# Altium schematic symbol library eBug2014-Parallella-Carrier-H.SchLib: 4 symbols
Pins are listed as number, name and electrical type; pins without a type are passive.

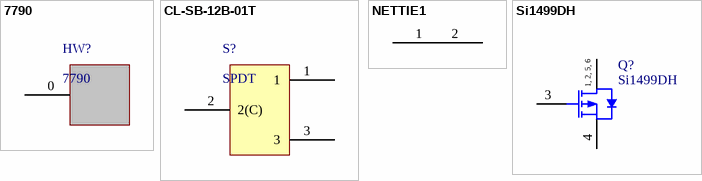
[diagram p0: symbols 7790 to Si1499DH]

## 7790
designator HW?
KEYSTONE ELECTRONICS - 7790 - TERM PCB SNAP-IN HORZ M3 THREAD
footprint 7790
pins: 0

## CL-SB-12B-01T
designator S?, comment SPDT
COPAL ELECTRONICS INC - CL-SB-12B-11T - SWITCH SLIDE SPDT 200MA 12V
footprint CL-SB-12B-11T (Footprint not found)
pins: 1, 2 2(C), 3

## NETTIE1
designator NT?  (value not drawn)  (net tie, no BOM)
footprint NETTIE1
pins: 1, 2

## Si1499DH
designator Q?
VISHAY SILICONIX - SI1499DH-T1-E3 - MOSFET P-CH 8V 1.6A SC70-6; Published: 8-Jun-2000; LatestRevisionDate: 17-Jul-2002; LatestRevisionNote: Re-released for DXP Platform.; DatasheetVersion: 23-Nov-1998; PackageVersion: Aug-1998; PackageReference: TSOP-6; Publisher: Altium Limited; PackageDescription: SOT-457/SC-74; 6 Leads; Body 3.1 x 3 mm, inc. leads (LxW max); ComponentLink1Description: Manufacturer Link; ComponentLink1URL: http://www.vishay.com/; ComponentLink2Description: Datasheet; ComponentLink2URL: http://www.vishay.com/docs/71839/71839.pdf
footprint SOT363-6N (Footprint not found)
footprint SOT363-6M (Footprint not found)
footprint SOT363-6L (Footprint not found)
pins: 1 D, 2 D, 3 G, 4 S, 5 D, 6 D
text: 1, 2, 5, 6